# Altium footprint library ToshibaCB.PcbLib: 6 footprints
Each footprint in its own frame and in the unit in brackets; x right, y up, seen from the top. Pads: shape width x height; smd on the part's side, far side on the other; paste and mask are expansions set on the pad; w line width, h text height; cw(c..) or ccw(c..) is an arc to the next point about the centre after c.
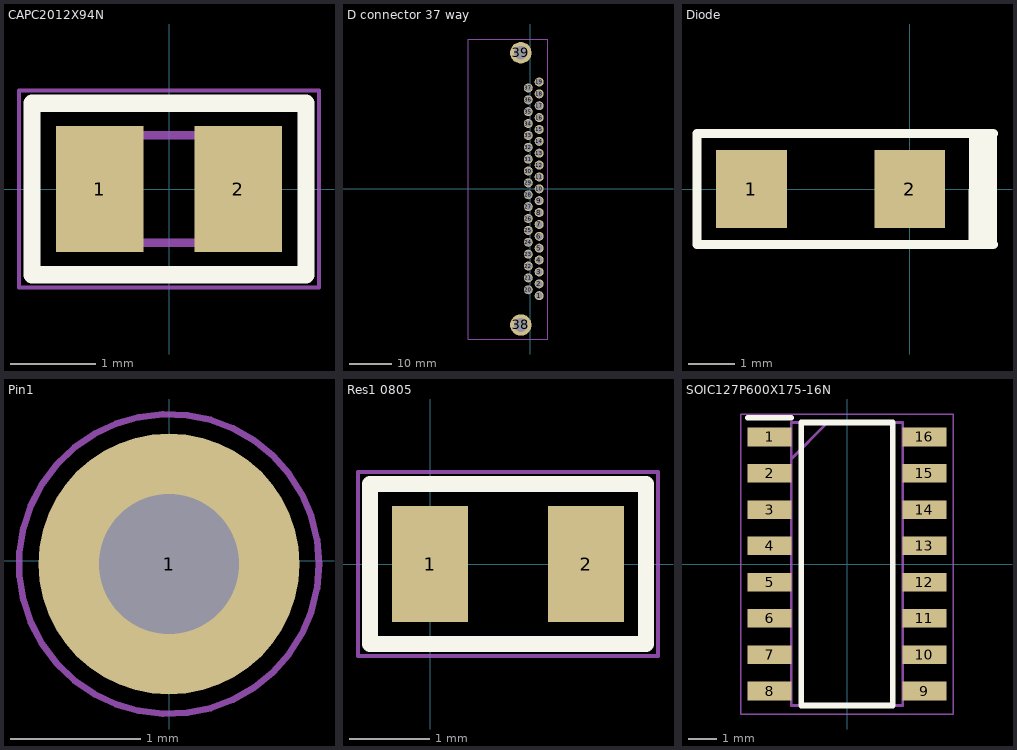
[diagram p0: the footprints below, top view; thin cyan lines are the x and y axes]

## CAPC2012X94N [mm]
pads (2):
  rect 1.02x1.47 smd: 1(-0.81,0) 2(0.81,0)
Top Overlay:
  lines w0.2: -1.6,-1 -1.6,1 1.6,1 1.6,-1 -1.6,-1
Mechanical 13:
  lines w0.1: -1.005,-0.625 -1.005,0.625 1.005,0.625 1.005,-0.625 -1.005,-0.625
Mechanical 15:
  lines w0.05: -1.75,-1.15 -1.75,1.15 1.75,1.15 1.75,-1.15 -1.75,-1.15
3D body "08055C104KAT2A.stp": height 0.94, standoff 0, extent -1.005,-0.625 1.005,0.625

## D connector 37 way [mm]
pads (39):
  round 2.1 hole 1.65: 1(2.135,-24.915) 2(2.135,-22.145) 3(2.135,-19.375) 4(2.135,-16.605) 5(2.135,-13.835) 6(2.135,-11.065) 7(2.135,-8.295) 8(2.135,-5.525) 9(2.135,-2.755) 10(2.135,0.015) 11(2.135,2.785) 12(2.135,5.555) 13(2.135,8.325) 14(2.135,11.095) 15(2.135,13.865) 16(2.135,16.635) 17(2.135,19.405) 18(2.135,22.175) 19(2.135,24.945) 20(-0.405,-23.535) 21(-0.405,-20.765) 22(-0.405,-17.995) 23(-0.405,-15.225) 24(-0.405,-12.455) 25(-0.405,-9.685) 26(-0.405,-6.915) 27(-0.405,-4.145) 28(-0.405,-1.375) 29(-0.405,1.395) 30(-0.405,4.165) 31(-0.405,6.935) 32(-0.405,9.705) 33(-0.405,12.475) 34(-0.405,15.245) 35(-0.405,18.015) 36(-0.405,20.785) 37(-0.405,23.555)
  round 5 hole 3.2: 38(-2.135,-31.755) 39(-2.135,31.755)
Mechanical 15:
  lines w0.05: -14.386,-35.025 4.114,-35.025 4.114,34.975 -14.386,34.975 -14.386,-35.025
3D body: height 13, standoff 0, extent -14.135,-34.845 3.865,34.725

## Diode [mm] "DO214AC"
pads (2):
  rect 1.52x1.68 smd: 1(-3.4,0) 2(0,0)
Top Overlay:
  region: 1.27,-1.186 1.878,-1.186 1.881,1.193 1.272,1.194
  lines w0.2: -4.572,-1.194 1.796,-1.194 ; -4.572,-1.186 -4.572,1.168 ; -4.572,1.194 1.796,1.194
3D body: height 13, standoff 0, extent 0,0 0,0
3D body: height 13, standoff 0, extent 0,0 0,0
3D body: height 13, standoff 0, extent -0.025,-0.025 -0.025,-0.025
3D body: height 1.98, standoff 0, extent -3.95,-1.397 0.546,1.397

## Pin1 [mm] "Pressed pin"
pads (1):
  round 2 hole 1.07: 1(0,-0.025)
Mechanical 15:
  circle w0.05: c0,-0.025 r1.15

## Res1 0805 [mm]
pads (2):
  rect 0.95x1.45 smd: 1(0,0) 2(1.95,0)
Top Overlay:
  lines w0.2: -0.75,-1 2.7,-1 2.7,1 -0.75,1 -0.75,-1
Mechanical 15:
  lines w0.05: -0.9,-1.15 2.85,-1.15 2.85,1.15 -0.9,1.15 -0.9,-1.15
3D body: height 13, standoff 0, extent -1.125,-1.525 -1.125,-1.525
3D body: height 0.45, standoff 0, extent -0.05,-0.625 1.95,0.625

## SOIC127P600X175-16N [mm]
pads (16):
  rect 1.525x0.65 smd: 1(-2.712,4.445) 2(-2.712,3.175) 3(-2.712,1.905) 4(-2.712,0.635) 5(-2.712,-0.635) 6(-2.712,-1.905) 7(-2.712,-3.175) 8(-2.712,-4.445) 9(2.712,-4.445) 10(2.712,-3.175) 11(2.712,-1.905) 12(2.712,-0.635) 13(2.712,0.635) 14(2.712,1.905) 15(2.712,3.175) 16(2.712,4.445)
Top Overlay:
  lines w0.2: -3.475,5.12 -1.95,5.12 ; -1.6,-4.95 1.6,-4.95 1.6,4.95 -1.6,4.95 -1.6,-4.95
Mechanical 13:
  lines w0.1: -1.95,3.68 -0.68,4.95 ; -1.95,-4.95 1.95,-4.95 1.95,4.95 -1.95,4.95 -1.95,-4.95
Mechanical 15:
  lines w0.05: -3.725,-5.25 3.725,-5.25 3.725,5.25 -3.725,5.25 -3.725,-5.25
3D body "DS34C87TM_NOPB.stp": height 1.75, standoff 0, extent -3,-4.95 3,4.95